# EAGLE library part LT1791 (library linear-technology)
RS485/RS422 Transceivers 60V Fault Protected
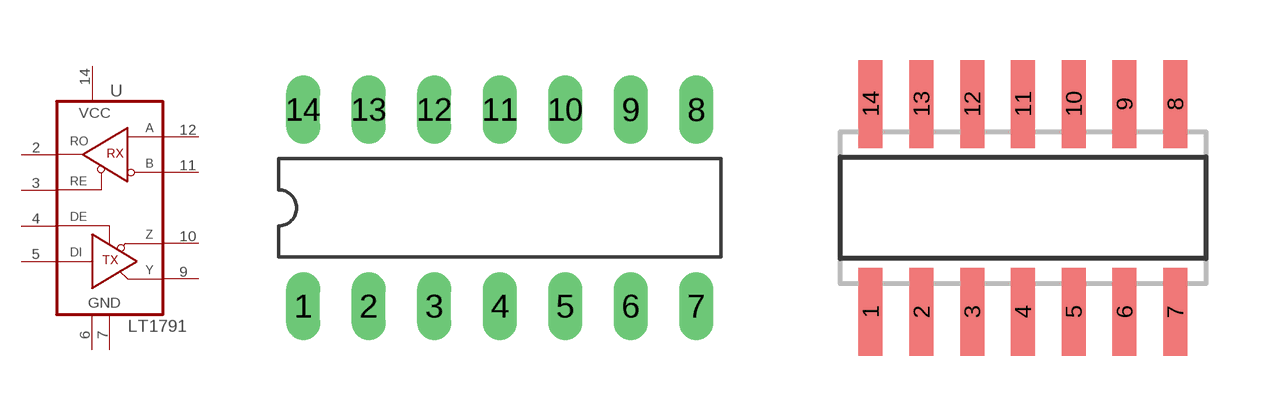
[diagram p26: symbol with the pads of DIL14; footprints DIL14, SO14]

Designator prefix U

## LT1791N (P1I: o)  [DIL14]
2  RO  out
3  !RE!  in
4  DE  in
5  DI  in
6  GND  pwr
7  GND  pwr
9  Y  out
10  Z  out
11  B  in
12  A  in
14  VCC  pwr

## LT1791S (P1I: o)  [SO14]
Pads as for DIL14

## Footprint DIL14 (pad centres in mm)
Dual In Line Package
drill 0.813 long: 1 -7.62,-3.81; 2 -5.08,-3.81; 3 -2.54,-3.81; 4 0,-3.81; 5 2.54,-3.81; 6 5.08,-3.81; 7 7.62,-3.81; 8 7.62,3.81; 9 5.08,3.81; 10 2.54,3.81; 11 0,3.81; 12 -2.54,3.81; 13 -5.08,3.81; 14 -7.62,3.81

## Footprint SO14 (pad centres in mm)
SMALL OUTLINE INTEGRATED CIRCUIT body 3.9 mm/JEDEC MS-012AC
smd 0.6 x 2.2: 1 -3.81,-2.6; 2 -2.54,-2.6; 3 -1.27,-2.6; 4 0,-2.6; 5 1.27,-2.6; 6 2.54,-2.6; 7 3.81,-2.6; 8 3.81,2.6; 9 2.54,2.6; 10 1.27,2.6; 11 0,2.6; 12 -1.27,2.6; 13 -2.54,2.6; 14 -3.81,2.6